# Altium footprint library pcblib_cm4.PcbLib: 15 footprints
Each footprint in its own frame and in the unit in brackets; x right, y up, seen from the top. Pads: shape width x height; smd on the part's side, far side on the other; paste and mask are expansions set on the pad; w line width, h text height; cw(c..) or ccw(c..) is an arc to the next point about the centre after c.
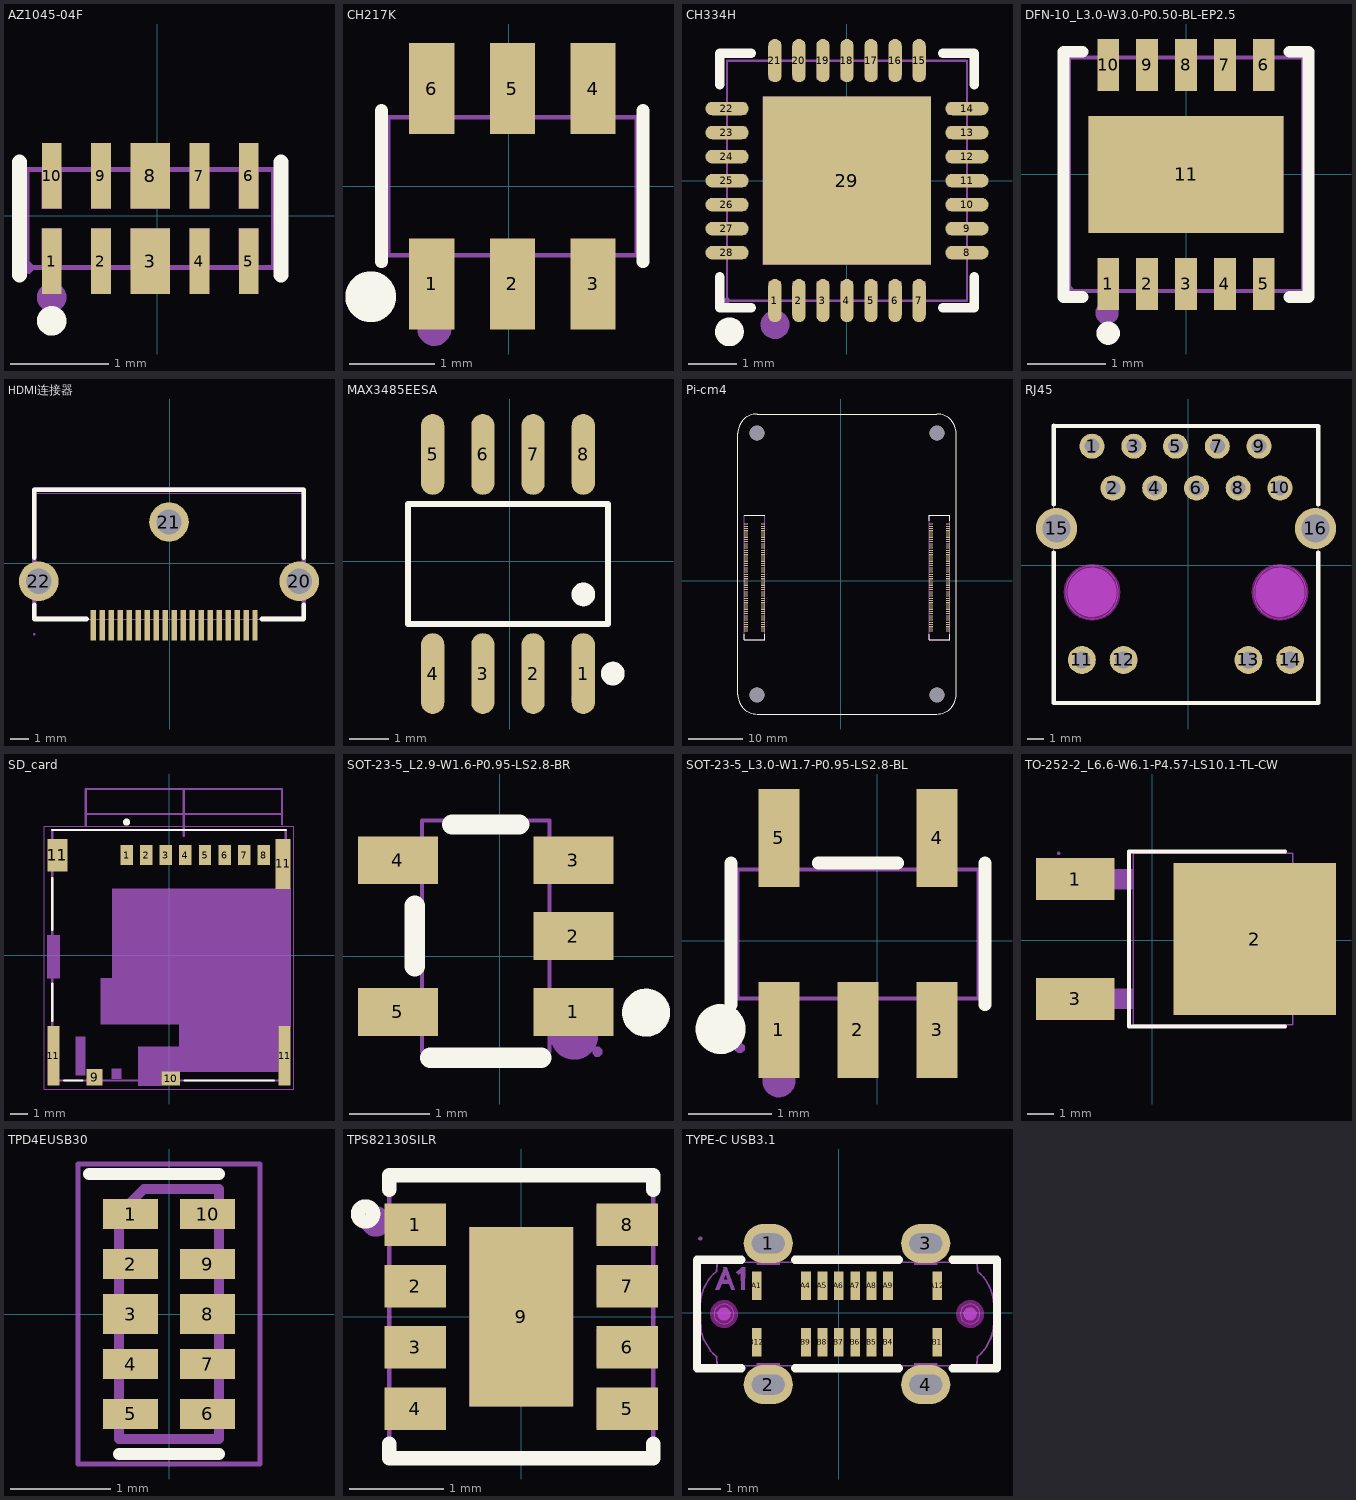
[diagram p0: the footprints below, top view; thin cyan lines are the x and y axes]

## AZ1045-04F [mm]
pads (10):
  rect 0.2x0.665 smd paste-100 mask+0.051: 1(-1.071,-0.461) 2(-0.571,-0.461) 4(0.429,-0.461) 5(0.929,-0.461) 6(0.929,0.405) 7(0.429,0.405) 9(-0.571,0.405) 10(-1.071,0.405)
  rect 0.4x0.665 smd paste-100 mask+0.051: 3(-0.071,-0.461) 8(-0.071,0.405)
Top Overlay:
  circle w0.15: c-1.071,-1.068 r0.075
  lines w0.152: -1.397,-0.604 -1.397,0.548 ; 1.255,-0.604 1.255,0.548
Top Paste:
  region: -0.271,-0.128 0.129,-0.128 0.129,-0.793 -0.271,-0.793 -0.271,-0.794
  region: -0.271,0.737 0.129,0.737 0.129,0.072 -0.271,0.072
  region: -0.672,-0.128 -0.47,-0.128 -0.47,-0.793 -0.671,-0.793
  region: -1.172,-0.128 -0.971,-0.128 -0.971,-0.793 -1.171,-0.793
  region: 0.328,-0.128 0.53,-0.128 0.53,-0.793 0.329,-0.793
  region: 0.828,-0.128 1.029,-0.128 1.029,-0.793 0.829,-0.793
  region: 0.828,0.737 1.029,0.737 1.029,0.073 0.829,0.073
  region: 0.328,0.737 0.53,0.737 0.53,0.073 0.329,0.073
  region: -0.672,0.737 -0.47,0.737 -0.47,0.073 -0.671,0.073
  region: -1.172,0.737 -0.971,0.737 -0.971,0.073 -1.171,0.073
Mechanical 6:
  circle w0.15: c-1.071,-0.828 r0.075
Mechanical 15:
  region: -0.271,-0.128 0.129,-0.128 0.129,-0.528 -0.271,-0.528
  region: -0.271,0.472 0.129,0.472 0.129,0.072 -0.271,0.072
  region: -1.171,0.472 -1.171,0.072 -0.971,0.072 -0.971,0.472
  region: -0.671,0.472 -0.671,0.072 -0.471,0.072 -0.471,0.472
  region: 0.329,0.472 0.329,0.072 0.529,0.072 0.529,0.472
  region: 0.829,0.472 0.829,0.072 1.029,0.072 1.029,0.472
  region: 0.829,-0.528 0.829,-0.128 1.029,-0.128 1.029,-0.528
  region: 0.329,-0.528 0.329,-0.128 0.529,-0.128 0.529,-0.528
  region: -0.671,-0.528 -0.671,-0.128 -0.471,-0.128 -0.471,-0.528
  region: -1.171,-0.528 -1.171,-0.128 -0.971,-0.128 -0.971,-0.528
  region: -1.261,-0.528 -1.261,-0.503 -1.296,-0.468 -1.346,-0.468 -1.381,-0.503 -1.381,-0.528 -1.381,-0.553 -1.346,-0.588 -1.296,-0.588 -1.261,-0.553
  lines w0.051: -1.321,-0.528 1.179,-0.528 1.179,0.472 -1.321,0.472 -1.321,-0.528

## CH217K [mm]
pads (6):
  rect 0.532x1.072 smd: 1(-0.91,-1.147) 2(0.04,-1.147) 3(0.99,-1.147) 4(0.99,1.151) 5(0.04,1.151) 6(-0.91,1.151)
Top Overlay:
  circle w0.3: c-1.628,-1.299 r0.15
  lines w0.152: -1.499,-0.887 -1.499,0.891 ; 1.58,-0.887 1.58,0.891
Mechanical 6:
  circle w0.2: c-0.88,-1.678 r0.1
Mechanical 15:
  region: -1.363,-1.398 -1.363,-1.373 -1.398,-1.339 -1.447,-1.339 -1.482,-1.374 -1.483,-1.398 -1.482,-1.422 -1.447,-1.457 -1.398,-1.457 -1.363,-1.422
  region: -1.125,-0.923 -0.695,-0.923 -0.695,-1.398 -1.125,-1.398
  region: -1.125,-0.801 -0.695,-0.801 -0.695,-0.933 -1.125,-0.933
  region: -0.175,-0.923 0.255,-0.923 0.255,-1.398 -0.175,-1.398
  region: -0.175,-0.801 0.255,-0.801 0.255,-0.933 -0.175,-0.933
  region: 0.775,-0.923 1.205,-0.923 1.205,-1.398 0.775,-1.398
  region: 0.775,-0.801 1.205,-0.801 1.205,-0.933 0.775,-0.933
  region: 0.775,0.927 1.205,0.927 1.205,1.402 0.775,1.402
  region: 0.775,0.937 1.205,0.937 1.205,0.805 0.775,0.805
  region: -0.175,0.927 0.255,0.927 0.255,1.402 -0.175,1.402
  region: -0.175,0.937 0.255,0.937 0.255,0.805 -0.175,0.805
  region: -1.125,0.927 -0.695,0.927 -0.695,1.402 -1.125,1.402
  region: -1.125,0.937 -0.695,0.937 -0.695,0.805 -1.125,0.805
  lines w0.051: -1.423,-0.811 1.503,-0.811 1.503,0.815 -1.423,0.815 -1.423,-0.811

## CH334H [mm]
pads (29):
  oval 0.28x0.9 smd paste-100 mask+0.051: 1(-1.501,-2.5) 2(-1.001,-2.5) 3(-0.5,-2.5) 4(0,-2.5) 5(0.5,-2.5) 6(1.001,-2.5) 7(1.501,-2.5) 15(1.501,2.5) 16(1.001,2.5) 17(0.5,2.5) 18(0,2.5) 19(-0.5,2.5) 20(-1.001,2.5) 21(-1.501,2.5)
  oval 0.9x0.28 smd paste-100 mask+0.051: 8(2.5,-1.501) 9(2.5,-1.001) 10(2.5,-0.5) 11(2.5,0) 12(2.5,0.5) 13(2.5,1.001) 14(2.5,1.501) 22(-2.5,1.501) 23(-2.5,1.001) 24(-2.5,0.5) 25(-2.5,0) 26(-2.5,-0.5) 27(-2.5,-1.001) 28(-2.5,-1.501)
  rect 3.5x3.5 smd paste-100 mask+0.051: 29(0,0)
Top Overlay:
  lines w0.2: -2.65,-2 -2.65,-2.65 -2,-2.65 ; -2.65,2 -2.65,2.65 -2,2.65 ; 2,-2.65 2.65,-2.65 2.65,-2 ; 2,2.65 2.65,2.65 2.65,2
  lines w0.3: -2.451,-3 ccw(c-2.45,-3.15) -2.45,-3.3 ccw(c-2.45,-3.15) -2.449,-3
Top Paste:
  drawing of 29 lines, arcs and shapes, not listed
Mechanical 6:
  circle w0.3: c-1.5,-3 r0.15
Mechanical 15:
  drawing of 34 lines, arcs and shapes, not listed

## DFN-10_L3.0-W3.0-P0.50-BL-EP2.5 [mm]
pads (11):
  rect 0.28x0.665 smd paste+0 mask+0.05: 1(-1,-1.407) 2(-0.5,-1.407) 3(0,-1.407) 4(0.5,-1.407) 5(1,-1.407) 6(1,1.407) 7(0.5,1.407) 8(0,1.407) 9(-0.5,1.407) 10(-1,1.407)
  rect 2.5x1.5 smd paste+0 mask+0.05: 11(0,0)
Top Overlay:
  circle w0.15: c-1,-2.04 r0.075
  lines w0.152: -1.331,-1.576 -1.576,-1.576 -1.576,1.576 -1.331,1.576 ; 1.331,-1.576 1.576,-1.576 1.576,1.576 1.331,1.576
Mechanical 6:
  circle w0.15: c-1.016,-1.778 r0.075
Mechanical 15:
  region: -1.25,0.75 1.25,0.75 1.25,-0.75 -1.25,-0.75
  region: -1.12,-1.5 -1.12,-1.1 -0.88,-1.1 -0.88,-1.5
  region: -0.62,-1.5 -0.62,-1.1 -0.38,-1.1 -0.38,-1.5
  region: -0.12,-1.5 -0.12,-1.1 0.12,-1.1 0.12,-1.5
  region: 0.38,-1.5 0.38,-1.1 0.62,-1.1 0.62,-1.5
  region: 0.88,-1.5 0.88,-1.1 1.12,-1.1 1.12,-1.5
  region: 0.88,1.5 0.88,1.1 1.12,1.1 1.12,1.5
  region: 0.38,1.5 0.38,1.1 0.62,1.1 0.62,1.5
  region: -0.12,1.5 -0.12,1.1 0.12,1.1 0.12,1.5
  region: -0.62,1.5 -0.62,1.1 -0.38,1.1 -0.38,1.5
  region: -1.12,1.5 -1.12,1.1 -0.88,1.1 -0.88,1.5
  region: -1.44,-1.5 -1.44,-1.475 -1.475,-1.44 -1.525,-1.44 -1.56,-1.475 -1.56,-1.5 -1.56,-1.525 -1.525,-1.56 -1.475,-1.56 -1.44,-1.525
  lines w0.051: -1.5,-1.5 1.5,-1.5 1.5,1.5 -1.5,1.5 -1.5,-1.5

## HDMI连接器 [mm]
pads (22):
  rect 0.3x1.7 smd paste-100 mask+0.05: 1(-4.242,-3.468) 2(-3.742,-3.468) 3(-3.242,-3.468) 4(-2.742,-3.468) 5(-2.242,-3.468) 6(-1.742,-3.468) 7(-1.242,-3.468) 8(-0.742,-3.468) 9(-0.242,-3.468) 10(0.258,-3.468) 11(0.758,-3.468) 12(1.258,-3.468) 13(1.758,-3.468) 14(2.258,-3.468) 15(2.758,-3.468) 16(3.258,-3.468) 17(3.758,-3.468) 18(4.258,-3.468) 19(4.758,-3.468)
  round 2.2 hole 1.4 paste-2539.97 mask+0.05: 20(7.218,-1.018) 21(-0.032,2.282) 22(-7.282,-1.018)
Top Overlay:
  lines w0.254: -7.532,-2.325 -7.532,-3.118 -4.623,-3.118 ; -7.532,0.289 -7.532,4.082 7.468,4.082 7.468,0.289 ; 5.139,-3.118 7.468,-3.118 ; 7.468,-3.093 7.468,-2.325
Top Paste:
  drawing of 22 lines, arcs and shapes, not listed
Mechanical 6:
  region: 5.118,-2.993 7.368,-2.993 7.368,3.957 7.318,4.007 -7.432,4.007 -7.432,-2.993 -4.632,-2.993 -4.632,-3.193 -7.582,-3.193 -7.632,-3.143 -7.632,4.107 -7.532,4.207 7.468,4.207 7.568,4.107 7.568,-3.093 7.468,-3.193 5.118,-3.193
Mechanical 15:
  region: -7.472,-3.968 -7.472,-3.943 -7.507,-3.908 -7.557,-3.908 -7.592,-3.943 -7.592,-3.968 -7.592,-3.993 -7.557,-4.028 -7.507,-4.028 -7.472,-3.993
  region: 6.968,-1.418 6.968,-0.618 7.468,-0.618 7.468,-1.418
  region: -7.532,-1.418 -7.532,-0.618 -7.032,-0.618 -7.032,-1.418
  region: -0.432,2.532 0.368,2.532 0.368,2.032 -0.432,2.032
  region: 4.658,-2.968 4.858,-2.968 4.858,-3.968 4.658,-3.968
  region: 4.158,-2.968 4.358,-2.968 4.358,-3.968 4.158,-3.968
  region: 3.658,-2.968 3.858,-2.968 3.858,-3.968 3.658,-3.968
  region: 3.158,-2.968 3.358,-2.968 3.358,-3.968 3.158,-3.968
  region: 2.658,-2.968 2.858,-2.968 2.858,-3.968 2.658,-3.968
  region: 2.158,-2.968 2.358,-2.968 2.358,-3.968 2.158,-3.968
  region: 1.658,-2.968 1.858,-2.968 1.858,-3.968 1.658,-3.968
  region: 1.158,-2.968 1.358,-2.968 1.358,-3.968 1.158,-3.968
  region: 0.658,-2.968 0.858,-2.968 0.858,-3.968 0.658,-3.968
  region: 0.158,-2.968 0.358,-2.968 0.358,-3.968 0.158,-3.968
  region: -0.342,-2.968 -0.142,-2.968 -0.142,-3.968 -0.342,-3.968
  region: -0.842,-2.968 -0.642,-2.968 -0.642,-3.968 -0.842,-3.968
  region: -1.342,-2.968 -1.142,-2.968 -1.142,-3.968 -1.342,-3.968
  region: -1.842,-2.968 -1.642,-2.968 -1.642,-3.968 -1.842,-3.968
  region: -2.342,-2.968 -2.142,-2.968 -2.142,-3.968 -2.342,-3.968
  region: -2.842,-2.968 -2.642,-2.968 -2.642,-3.968 -2.842,-3.968
  region: -3.342,-2.968 -3.142,-2.968 -3.142,-3.968 -3.342,-3.968
  region: -3.842,-2.968 -3.642,-2.968 -3.642,-3.968 -3.842,-3.968
  region: -4.342,-2.968 -4.142,-2.968 -4.142,-3.968 -4.342,-3.968
  lines w0.051: -7.532,-3.118 -7.532,3.882 7.468,3.882 7.468,-3.118 -7.532,-3.118

## MAX3485EESA [mm]
pads (8):
  oval 0.588x2.045 smd: 1(1.858,-2.845) 2(0.588,-2.845) 3(-0.682,-2.845) 4(-1.952,-2.845) 5(-1.952,2.7) 6(-0.683,2.7) 7(0.588,2.7) 8(1.858,2.7)
Top Overlay:
  circle w0.3: c2.604,-2.845 r0.15
  circle w0.3: c1.858,-0.842 r0.15
  lines w0.152: -2.574,-1.594 2.479,-1.594 2.479,1.449 -2.574,1.449 -2.574,-1.594
Mechanical 15:
  circle w0.3: c1.858,-3.473 r0.15

## Pi-cm4 [mm]
pads (204):
  rect 0.7x0.2 smd paste+0 mask+0: 1(-17.367,10.345) 2(-14.287,10.345) 3(-17.367,9.945) 4(-14.287,9.945) 5(-17.367,9.545) 6(-14.287,9.545) 7(-17.367,9.145) 8(-14.287,9.145) 9(-17.367,8.745) 10(-14.287,8.745) 11(-17.367,8.345) 12(-14.287,8.345) 13(-17.367,7.945) 14(-14.287,7.945) 15(-17.367,7.545) 16(-14.287,7.545) 17(-17.367,7.145) 18(-14.287,7.145) 19(-17.367,6.745) 20(-14.287,6.745) 21(-17.367,6.345) 22(-14.287,6.345) 23(-17.367,5.945) 24(-14.287,5.945) 25(-17.367,5.545) 26(-14.287,5.545) 27(-17.367,5.145) 28(-14.287,5.145) 29(-17.367,4.745) 30(-14.287,4.745) 31(-17.367,4.345) 32(-14.287,4.345) 33(-17.367,3.945) 34(-14.287,3.945) 35(-17.367,3.545) 36(-14.287,3.545) 37(-17.367,3.145) 38(-14.287,3.145) 39(-17.367,2.745) 40(-14.287,2.745) 41(-17.367,2.345) 42(-14.287,2.345) 43(-17.367,1.945) 44(-14.287,1.945) 45(-17.367,1.545) 46(-14.287,1.545) 47(-17.367,1.145) 48(-14.287,1.145) 49(-17.367,0.745) 50(-14.287,0.745) 51(-17.367,0.345) 52(-14.287,0.345) 53(-17.367,-0.055) 54(-14.287,-0.055) 55(-17.367,-0.455) 56(-14.287,-0.455) 57(-17.367,-0.855) 58(-14.287,-0.855) 59(-17.367,-1.255) 60(-14.287,-1.255) 61(-17.367,-1.655) 62(-14.287,-1.655) 63(-17.367,-2.055) 64(-14.287,-2.055) 65(-17.367,-2.455) 66(-14.287,-2.455) 67(-17.367,-2.855) 68(-14.287,-2.855) 69(-17.367,-3.255) 70(-14.287,-3.255) 71(-17.367,-3.655) 72(-14.287,-3.655) 73(-17.367,-4.055) 74(-14.287,-4.055) 75(-17.367,-4.455) 76(-14.287,-4.455) 77(-17.367,-4.855) 78(-14.287,-4.855) 79(-17.367,-5.255) 80(-14.287,-5.255) 81(-17.367,-5.655) 82(-14.287,-5.655) 83(-17.367,-6.055) 84(-14.287,-6.055) 85(-17.367,-6.455) 86(-14.287,-6.455) 87(-17.367,-6.855) 88(-14.287,-6.855) 89(-17.367,-7.255) 90(-14.287,-7.255) 91(-17.367,-7.655) 92(-14.287,-7.655) 93(-17.367,-8.055) 94(-14.287,-8.055) 95(-17.367,-8.455) 96(-14.287,-8.455) 97(-17.367,-8.855) 98(-14.287,-8.855) 99(-17.367,-9.255) 100(-14.287,-9.255) 101(16.553,10.345) 102(19.633,10.345) 103(16.553,9.945) 104(19.633,9.945) 105(16.553,9.545) 106(19.633,9.545) 107(16.553,9.145) 108(19.633,9.145) 109(16.553,8.745) 110(19.633,8.745) 111(16.553,8.345) 112(19.633,8.345) 113(16.553,7.945) 114(19.633,7.945) 115(16.553,7.545) 116(19.633,7.545) 117(16.553,7.145) 118(19.633,7.145) 119(16.553,6.745) 120(19.633,6.745) 121(16.553,6.345) 122(19.633,6.345) 123(16.553,5.945) 124(19.633,5.945) 125(16.553,5.545) 126(19.633,5.545) 127(16.553,5.145) 128(19.633,5.145) 129(16.553,4.745) 130(19.633,4.745) 131(16.553,4.345) 132(19.633,4.345) 133(16.553,3.945) 134(19.633,3.945) 135(16.553,3.545) 136(19.633,3.545) 137(16.553,3.145) 138(19.633,3.145) 139(16.553,2.745) 140(19.633,2.745) 141(16.553,2.345) 142(19.633,2.345) 143(16.553,1.945) 144(19.633,1.945) 145(16.553,1.545) 146(19.633,1.545) 147(16.553,1.145) 148(19.633,1.145) 149(16.553,0.745) 150(19.633,0.745) 151(16.553,0.345) 152(19.633,0.345) 153(16.553,-0.055) 154(19.633,-0.055) 155(16.553,-0.455) 156(19.633,-0.455) 157(16.553,-0.855) 158(19.633,-0.855) 159(16.553,-1.255) 160(19.633,-1.255) 161(16.553,-1.655) 162(19.633,-1.655) 163(16.553,-2.055) 164(19.633,-2.055) 165(16.553,-2.455) 166(19.633,-2.455) 167(16.553,-2.855) 168(19.633,-2.855) 169(16.553,-3.255) 170(19.633,-3.255) 171(16.553,-3.655) 172(19.633,-3.655) 173(16.553,-4.055) 174(19.633,-4.055) 175(16.553,-4.455) 176(19.633,-4.455) 177(16.553,-4.855) 178(19.633,-4.855) 179(16.553,-5.255) 180(19.633,-5.255) 181(16.553,-5.655) 182(19.633,-5.655) 183(16.553,-6.055) 184(19.633,-6.055) 185(16.553,-6.455) 186(19.633,-6.455) 187(16.553,-6.855) 188(19.633,-6.855) 189(16.553,-7.255) 190(19.633,-7.255) 191(16.553,-7.655) 192(19.633,-7.655) 193(16.553,-8.055) 194(19.633,-8.055) 195(16.553,-8.455) 196(19.633,-8.455) 197(16.553,-8.855) 198(19.633,-8.855) 199(16.553,-9.255) 200(19.633,-9.255)
  round 2.7 hole 2.7 unplated paste-2539.97 mask+1.7: ""(-15.367,-20.955) ""(-15.367,27.045) ""(17.633,-20.955) ""(17.633,27.045)
Top Overlay:
  lines w0.12: -17.717,-9.855 -17.717,-10.855 -13.937,-10.855 -13.937,-9.855 ; -17.717,11.945 -13.937,11.945 ; 16.203,-9.855 16.203,-10.855 19.983,-10.855 19.983,-9.855 ; 16.203,10.945 16.203,11.945 19.983,11.945 19.983,10.945 ; -18.867,-20.955 ccw(c-15.367,-20.955) -15.367,-24.455 17.633,-24.455 ccw(c17.633,-20.955) 21.133,-20.955 21.133,27.045 ccw(c17.633,27.045) 17.633,30.545 -15.367,30.545 ccw(c-15.367,27.045) -18.867,27.045 -18.867,-20.955
Mechanical 6:
  lines w0.12: -17.717,-10.855 -17.717,11.945 -13.937,11.945 -13.937,-10.855 -17.717,-10.855 ; 16.203,-10.855 19.983,-10.855 19.983,11.945 16.203,11.945 16.203,-10.855

## RJ45 [mil]
pads (16):
  round 60 hole 36: 1(-230.75,284.96) 2(-180.75,184.96) 3(-130.75,284.96) 4(-80.75,184.96) 5(-30.75,284.96) 6(19.25,184.96) 7(69.25,284.96) 8(119.25,184.96) 9(169.25,284.96) 10(219.25,184.96)
  round 66.93 hole 40.16: 11(-255.15,-226.85) 12(-155.15,-226.85) 13(143.66,-226.85) 14(243.66,-226.85)
  round 98.42 hole 66.93: 15(-315.79,88.11) 16(304.29,88.11)
Top Overlay:
  lines w10: -322.68,30.66 -322.68,-330 311.18,-330 311.18,30.66 ; -322.68,145.56 -322.68,334.96 ; -322.68,333.38 311.18,333.38 311.18,145.56
Keep-Out Layer:
  board cut-out: 282.24,-65.04 282.24,-58.84 279.82,-46.67 275.08,-35.2 268.18,-24.89 259.41,-16.11 249.09,-9.22 237.63,-4.47 225.46,-2.05 213.05,-2.05 200.88,-4.47 189.41,-9.22 179.1,-16.11 170.32,-24.88 163.43,-35.2 158.68,-46.67 156.26,-58.84 156.26,-65.04 156.26,-71.24 158.68,-83.41 163.43,-94.88 170.32,-105.2 179.1,-113.97 189.41,-120.86 200.88,-125.61 213.05,-128.03 225.46,-128.03 237.63,-125.61 249.09,-120.86 259.41,-113.97 268.18,-105.2 275.07,-94.88 279.82,-83.42 282.24,-71.25
  board cut-out: -167.76,-65.04 -167.76,-58.84 -170.18,-46.67 -174.92,-35.2 -181.82,-24.89 -190.59,-16.11 -200.91,-9.22 -212.37,-4.47 -224.54,-2.05 -236.95,-2.05 -249.12,-4.47 -260.59,-9.22 -270.9,-16.11 -279.68,-24.88 -286.57,-35.2 -291.32,-46.67 -293.74,-58.84 -293.74,-65.04 -293.74,-71.24 -291.32,-83.41 -286.57,-94.88 -279.68,-105.2 -270.9,-113.97 -260.59,-120.86 -249.12,-125.61 -236.95,-128.03 -224.54,-128.03 -212.37,-125.61 -200.91,-120.86 -190.59,-113.97 -181.82,-105.2 -174.92,-94.88 -170.18,-83.42 -167.76,-71.25
Keep-Out Layer:
  circle w10: c219.25,-65.04 r62.99
  circle w1: c219.25,-65.04 r62.99
  circle w10: c-230.75,-65.04 r62.99
  circle w1: c-230.75,-65.04 r62.99
Mechanical 1:
  circle w1: c219.25,-65.04 r62.99
  circle w1: c-230.75,-65.04 r62.99
Mechanical 6:
  circle w59.05: c219.25,-65.04 r29.53
  circle w59.05: c-230.75,-65.04 r29.53
Mechanical 15:
  region: -267.75,-214.25 -242.56,-214.25 -242.56,-239.45 -267.75,-239.45
  region: -167.75,-214.25 -142.56,-214.25 -142.56,-239.45 -167.75,-239.45
  region: 131.06,-214.25 156.26,-214.25 156.26,-239.45 131.06,-239.45
  region: 231.06,-214.25 256.26,-214.25 256.26,-239.45 231.06,-239.45
  region: -321.69,62.52 -321.69,113.7 -309.88,113.7 -309.88,62.52
  region: 298.39,62.52 298.39,113.7 310.2,113.7 310.2,62.52
  region: -240.59,290.86 -220.91,290.86 -220.91,279.05 -240.59,279.05
  region: -190.59,190.86 -170.91,190.86 -170.91,179.05 -190.59,179.05
  region: -140.59,290.86 -120.91,290.86 -120.91,279.05 -140.59,279.05
  region: -90.59,190.86 -70.91,190.86 -70.91,179.05 -90.59,179.05
  region: -40.59,290.86 -20.91,290.86 -20.91,279.05 -40.59,279.05
  region: 9.41,190.86 29.09,190.86 29.09,179.05 9.41,179.05
  region: 59.41,290.86 79.09,290.86 79.09,279.05 59.41,279.05
  region: 109.41,190.86 129.09,190.86 129.09,179.05 109.41,179.05
  region: 159.41,290.86 179.09,290.86 179.09,279.05 159.41,279.05
  region: 209.41,190.86 229.09,190.86 229.09,179.05 209.41,179.05
  region: -320.32,333.39 -320.32,334.37 -321.7,335.75 -323.66,335.75 -325.04,334.37 -325.04,333.39 -325.04,332.41 -323.66,331.03 -321.7,331.03 -320.32,332.41
  lines w2: -322.68,-330 -322.68,333.39 311.18,333.39 311.18,-330 -322.68,-330

## SD_card [mm]
pads (14):
  rect 0.7x1.1 smd paste+0 mask+0: 1(-2.38,5.625) 2(-1.28,5.625) 3(-0.18,5.625) 4(0.92,5.625) 5(2.02,5.625) 6(3.12,5.625) 7(4.22,5.625) 8(5.32,5.625)
  rect 0.9x0.93 smd paste+0 mask+0: 9(-4.17,-6.84)
  rect 1.05x0.78 smd paste+0 mask+0: 10(0.095,-6.915)
  rect 0.7x3.33 smd paste+0 mask+0: 11(-6.48,-5.64) 11(6.48,-5.64)
  rect 1.14x1.83 smd paste+0 mask+0: 11(-6.26,5.61)
  rect 0.86x2.8 smd paste+0 mask+0: 11(6.4,5.125)
Top Overlay:
  circle w0.2: c-2.38,7.475 r0.1
  lines w0.127: -6.55,-3.675 -6.55,-1.575 ; -6.55,1.425 -6.55,4.325 ; -6.55,7.025 6.55,7.025 ; -5.876,-7.025 -4.874,-7.025 ; 0.874,-7.025 5.876,-7.025
Mechanical 1:
  region: -6.836,1.125 -6.13,1.125 -6.13,-1.276 -6.836,-1.276
  region: -3.17,3.725 -3.17,-1.275 -3.82,-1.275 -3.82,-3.875 0.57,-3.875 0.57,-5.125 -1.73,-5.125 -1.73,-7.305 -0.43,-7.305 -0.43,-6.525 6.13,-6.525 6.13,-3.975 6.83,-3.975 6.83,3.725
  region: -3.223,-6.375 -2.67,-6.375 -2.67,-6.93 -3.223,-6.93
  region: -3.17,3.725 -3.17,-1.275 -3.82,-1.275 -3.82,-3.875 0.57,-3.875 0.57,-5.125 -1.73,-5.125 -1.73,-7.305 -0.43,-7.305 -0.43,-6.525 6.13,-6.525 6.13,-3.975 6.83,-3.975 6.83,3.725
  region: -3.225,-6.375 -2.67,-6.375 -2.67,-6.937 -3.225,-6.937
  region: -5.239,-4.575 -4.685,-4.575 -4.685,-6.73 -5.239,-6.73
  region: -6.842,1.125 -6.13,1.125 -6.13,-1.277 -6.842,-1.277
  region: -5.245,-4.575 -4.685,-4.575 -4.685,-6.738 -5.245,-6.738
  lines w0.12: -4.67,7.28 -4.67,9.33 6.33,9.33 6.33,7.35 ; -4.67,7.93 6.33,7.93 ; 0.83,6.7 0.83,9.33
Mechanical 6:
  lines w0.05: -7,-7.5 -7,7.25 7,7.25 7,-7.5 -7,-7.5
Mechanical 15:
  circle w0.2: c-2.38,5.775 r0.1
  lines w0.127: -6.55,-7.025 6.55,-7.025 6.55,7.025 -6.55,7.025 -6.55,-7.025

## SOT-23-5_L2.9-W1.6-P0.95-LS2.8-BR [mm]
pads (5):
  rect 1x0.6 smd paste+0 mask+0.05: 1(0.922,-0.696) 2(0.922,0.254) 3(0.922,1.204) 4(-1.278,1.204) 5(-1.278,-0.696)
Top Overlay:
  circle w0.3: c1.832,-0.706 r0.15
  lines w0.254: -1.067,-0.127 -1.067,0.635 ; -0.876,-1.27 0.521,-1.27 ; -0.6,1.651 0.244,1.651
Mechanical 6:
  circle w0.3: c0.932,-0.996 r0.15
Mechanical 15:
  region: 0.782,0.054 0.612,0.054 0.612,0.454 0.782,0.454
  region: 1.222,0.054 0.772,0.054 0.772,0.454 1.222,0.454
  region: 0.782,1.004 0.612,1.004 0.612,1.404 0.782,1.404
  region: 1.222,1.004 0.772,1.004 0.772,1.404 1.222,1.404
  region: 0.782,-0.896 0.612,-0.896 0.612,-0.496 0.782,-0.496
  region: 1.222,-0.896 0.772,-0.896 0.772,-0.496 1.222,-0.496
  region: -0.968,1.004 -1.138,1.004 -1.138,1.404 -0.968,1.404
  region: -1.128,1.004 -1.578,1.004 -1.578,1.404 -1.128,1.404
  region: -0.968,-0.896 -1.138,-0.896 -1.138,-0.496 -0.968,-0.496
  region: -1.128,-0.896 -1.578,-0.896 -1.578,-0.496 -1.128,-0.496
  region: 1.282,-1.196 1.282,-1.171 1.247,-1.136 1.197,-1.136 1.162,-1.171 1.162,-1.196 1.162,-1.221 1.197,-1.256 1.247,-1.256 1.282,-1.221
  lines w0.051: -0.978,-1.196 -0.978,1.704 0.622,1.704 0.622,-1.196 -0.978,-1.196

## SOT-23-5_L3.0-W1.7-P0.95-LS2.8-BL [mm]
pads (5):
  rect 0.49x1.157 smd: 1(-1.181,-1.069) 2(-0.231,-1.069) 3(0.719,-1.069)
  rect 0.49x1.175 smd: 4(0.719,1.238) 5(-1.181,1.238)
Top Overlay:
  circle w0.3: c-1.882,-1.058 r0.15
  lines w0.152: -1.757,-0.767 -1.757,0.936 ; -0.707,0.936 0.246,0.936 ; 1.295,-0.767 1.295,0.936
Mechanical 6:
  circle w0.2: c-1.181,-1.678 r0.1
Mechanical 15:
  region: -1.356,-1.315 -1.356,-0.915 -1.006,-0.915 -1.006,-1.315
  region: -1.356,-0.925 -1.356,-0.655 -1.006,-0.655 -1.006,-0.925
  region: -0.406,-1.315 -0.406,-0.915 -0.056,-0.915 -0.056,-1.315
  region: -0.406,-0.925 -0.406,-0.655 -0.056,-0.655 -0.056,-0.925
  region: 0.544,-1.315 0.544,-0.915 0.894,-0.915 0.894,-1.315
  region: 0.544,-0.925 0.544,-0.655 0.894,-0.655 0.894,-0.925
  region: 0.544,1.085 0.544,1.485 0.894,1.485 0.894,1.085
  region: 0.544,0.825 0.544,1.095 0.894,1.095 0.894,0.825
  region: -1.356,1.085 -1.356,1.485 -1.006,1.485 -1.006,1.085
  region: -1.356,0.825 -1.356,1.095 -1.006,1.095 -1.006,0.825
  region: -1.591,-1.285 -1.592,-1.261 -1.627,-1.227 -1.676,-1.227 -1.71,-1.261 -1.711,-1.285 -1.71,-1.31 -1.675,-1.344 -1.626,-1.344 -1.592,-1.31
  lines w0.051: -1.681,-0.69 -1.681,0.86 1.219,0.86 1.219,-0.69 -1.681,-0.69

## TO-252-2_L6.6-W6.1-P4.57-LS10.1-TL-CW [mm]
pads (3):
  rect 3x1.6 smd: 1(-2.945,2.329) 3(-2.945,-2.241)
  rect 6.2x5.8 smd: 2(3.903,0.044)
Top Overlay:
  lines w0.152: 5.064,-3.302 -0.904,-3.302 -0.904,3.39 5.064,3.39
Mechanical 6:
  circle w0.6: c-3.458,2.457 r0.3
Mechanical 15:
  region: -1.993,-1.861 -1.993,-2.621 -3.583,-2.621 -3.583,-1.861
  region: -0.732,-1.861 -0.732,-2.621 -2.003,-2.621 -2.003,-1.861
  region: -1.993,2.709 -1.993,1.949 -3.583,1.949 -3.583,2.709
  region: -0.731,2.709 -0.731,1.949 -2.002,1.949 -2.002,2.709
  region: 6.578,2.694 6.578,-2.606 1.228,-2.606 1.228,2.694
  region: -3.523,3.314 -3.523,3.339 -3.558,3.374 -3.607,3.374 -3.643,3.339 -3.643,3.314 -3.643,3.289 -3.607,3.254 -3.558,3.254 -3.523,3.289 -3.523,3.314
  lines w0.051: -0.743,-3.226 5.352,-3.226 5.352,3.314 -0.743,3.314 -0.743,-3.226

## TPD4EUSB30 [mm]
pads (10):
  rect 0.55x0.3 smd paste+0 mask+0: 1(-0.385,1) 2(-0.385,0.5) 4(-0.385,-0.5) 5(-0.385,-1) 6(0.385,-1) 7(0.385,-0.5) 9(0.385,0.5) 10(0.385,1)
  rect 0.55x0.4 smd paste+0 mask+0: 3(-0.385,0) 8(0.385,0)
Top Overlay:
  lines w0.12: -0.8,1.4 0.5,1.4 ; -0.5,-1.4 0.5,-1.4
Mechanical 6:
  lines w0.05: -0.91,-1.5 -0.91,1.5 0.91,1.5 0.91,-1.5 -0.91,-1.5
Mechanical 15:
  lines w0.1: -0.5,-1.25 0.5,-1.25 0.5,1.25 -0.25,1.25 -0.5,1 -0.5,-1.25

## TPS82130SILR [mm]
pads (9):
  rect 0.65x0.45 smd: 1(-1.125,0.975) 2(-1.125,0.325) 3(-1.125,-0.325) 4(-1.125,-0.975) 5(1.125,-0.975) 6(1.125,-0.325) 7(1.125,0.325) 8(1.125,0.975)
  rect 1.1x1.9 smd: 9(0,0)
Top Overlay:
  circle w0.15: c-1.65,1.09 r0.081
  lines w0.15: -1.4,-1.347 -1.4,-1.5 1.4,-1.5 1.4,-1.347 ; -1.4,1.347 -1.4,1.5 1.4,1.5 1.4,1.347
Mechanical 6:
  circle w0.16: c-1.54,1.01 r0.08
Mechanical 15:
  region: -1.3,1.175 -0.8,1.175 -0.8,0.775 -1.3,0.775
  region: -1.3,0.525 -0.8,0.525 -0.8,0.125 -1.3,0.125
  region: -1.3,-0.125 -0.8,-0.125 -0.8,-0.525 -1.3,-0.525
  region: -1.3,-0.775 -0.8,-0.775 -0.8,-1.175 -1.3,-1.175
  region: 0.8,0.525 1.3,0.525 1.3,0.125 0.8,0.125
  region: 0.8,1.175 1.3,1.175 1.3,0.775 0.8,0.775
  region: 0.8,-0.775 1.3,-0.775 1.3,-1.175 0.8,-1.175
  region: 0.8,-0.125 1.3,-0.125 1.3,-0.525 0.8,-0.525
  region: -0.55,-0.95 -0.55,0.95 0.55,0.95 0.55,-0.95
  region: -1.34,1.5 -1.341,1.525 -1.376,1.559 -1.425,1.559 -1.459,1.525 -1.46,1.5 -1.459,1.476 -1.424,1.441 -1.376,1.441 -1.341,1.476
  lines w0.051: -1.4,-1.5 -1.4,1.5 1.4,1.5 1.4,-1.5 -1.4,-1.5

## TYPE-C USB3.1 [mm]
pads (20):
  oval 1.5x1.2 hole 0.61 slot 1 at 0 deg: 1(-2.146,2.106) 2(-2.146,-2.194) 3(2.654,2.106) 4(2.654,-2.194)
  rect 0.3x0.87 smd paste-100 mask+0.051: A1(-2.496,0.821) A4(-0.996,0.821) A5(-0.496,0.821) A6(0.004,0.821) A7(0.504,0.821) A8(1.004,0.821) A9(1.504,0.821) A12(3.004,0.821) B1(3.004,-0.909) B4(1.504,-0.909) B5(1.004,-0.909) B6(0.504,-0.909) B7(0.004,-0.909) B8(-0.496,-0.909) B9(-0.996,-0.909) B12(-2.496,-0.909)
Top Overlay:
  lines w0.254: -4.318,1.353 -4.318,1.607 -2.96,1.607 ; -4.318,1.48 -4.318,-1.695 -2.96,-1.695 ; -1.332,-1.695 1.84,-1.695 ; -1.332,1.607 1.84,1.607 ; 3.468,-1.695 4.826,-1.695 4.826,1.48 4.826,1.607 3.468,1.607
Top Paste:
  drawing of 20 lines, arcs and shapes, not listed
Keep-Out Layer:
  board cut-out: 4.304,-0.044 4.304,0.015 4.257,0.125 4.173,0.208 4.063,0.253 3.945,0.253 3.835,0.208 3.751,0.125 3.705,0.015 3.704,-0.044 3.705,-0.103 3.751,-0.213 3.835,-0.296 3.945,-0.341 4.063,-0.341 4.173,-0.296 4.257,-0.212 4.304,-0.103
  board cut-out: -3.196,-0.044 -3.197,0.015 -3.243,0.125 -3.327,0.208 -3.437,0.253 -3.555,0.253 -3.665,0.208 -3.749,0.125 -3.795,0.015 -3.796,-0.044 -3.795,-0.103 -3.749,-0.213 -3.665,-0.296 -3.555,-0.341 -3.437,-0.341 -3.327,-0.296 -3.243,-0.212 -3.197,-0.103
Keep-Out Layer:
  circle w0.254: c4.004,-0.044 r0.3
  circle w0.025: c4.004,-0.044 r0.3
  circle w0.254: c-3.496,-0.044 r0.3
  circle w0.025: c-3.496,-0.044 r0.3
Mechanical 1:
  circle w0.025: c4.004,-0.044 r0.3
  circle w0.025: c-3.496,-0.044 r0.3
Mechanical 6:
  circle w0.2: c4.004,-0.044 r0.1
  circle w0.2: c-3.496,-0.044 r0.1
  region: -3.505,1.006 -3.392,1.005 -3.345,0.873 -3.557,0.877
  region: -3.448,1.161 -3.635,0.691 -3.759,0.693 -3.509,1.338
  region: -3.278,0.689 -3.165,0.69 -3.415,1.376 -3.523,1.375 -3.521,1.375
  region: -3.05,1.152 -3.111,1.213 -3.112,1.214 -3.114,1.217 -3.115,1.22 -3.116,1.223 -3.116,1.225 -2.947,1.379 -2.854,1.377 -2.865,0.699 -2.976,0.697 -2.98,1.216
Mechanical 15:
  drawing of 57 lines, arcs and shapes, not listed